# Altium schematic symbol library Schlib1.SchLib: 5 symbols
Pins are listed as number, name and electrical type; pins without a type are passive.

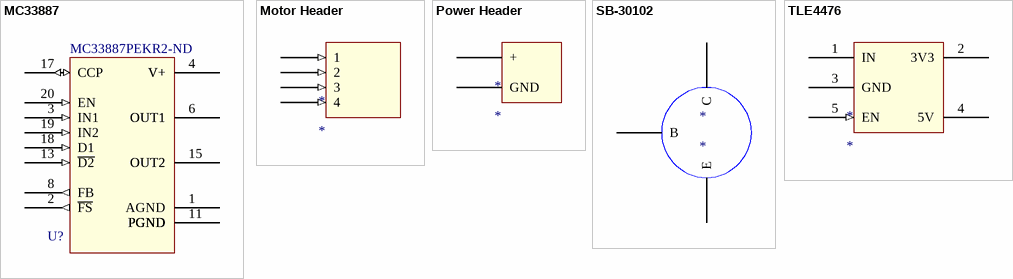
[diagram p0: symbols MC33887 to TLE4476]

## MC33887
designator U?  Supplier Part Number 1: MC33887PEKR2-ND  (hidden comment: MC33887)
H-Bridge; Supplier 1: Digi-Key
footprint HSOP20 Freescale (SOP, 20-Leads, Body 16.0x11.1mm (max), Pitch 1.27mm, IPC Low Density)
pins: 1 AGND (power) "Analog Ground", 2 ~{FS} (out) "Fault Status Flag", 3 IN1 (in) "Input 1", 4 V+ (power) "Power in", 5 V+ (power) "Power In", 6 OUT1 (power) "Output 1", 7 OUT1 (power) "High Current", 8 FB (out) "Current Mirror Feedback", 9 PGND (power) "High Current", 10 PGND (power) "High Current", 11 PGND (power) "Power Ground", 12 PGND (power) "High Current", 13 ~{D2} (in) "Input 2 Enable", 14 OUT2 (power) "High Current", 15 OUT2 (power) "Output 1", 16 V+ (power) "Power In", 17 CCP (io) "Charge Pump Capacitor", 18 D1 (in) "Input 1 Enable", 19 IN2 (in) "Input 2", 20 EN (in) "Enable chip", 21 PGND (power) "High Current"

## Motor Header
designator *
footprint Motor Header (Custom header for motor connections)
pins: 1 (in) "Fault Status Flag", 2 (in) "Fault Status Flag", 3 (in) "Fault Status Flag", 4 (in) "Fault Status Flag"

## Power Header
designator *
footprint Power Header (Custom header for power in)
pins: 1 + (power) "High Current +", 2 GND (power) "High Current -"

## SB-30102
designator *
footprint SOT23 (SOT23, 3-Leads, Body 3.0x2.6mm (max), Pitch 0.95mm, IPC Low Density)
pins: Base B (power), Collector C (power), Emitter E (power)

## TLE4476
designator *
3V3 / 5V0 LDO regulator
footprint PG-TO252-5-1 (D-PAK, 5-Pads, Body 6.2x6.5mm (max), IPC Low Density)
pins: 1 IN (power) "Power In", 2 3V3 (power) "3V3 Out", 3 GND (power) "Ground", 4 5V (power) "5V0 Out", 5 EN (in) "Power In"